# EAGLE library part 53261-0771 (library molex)
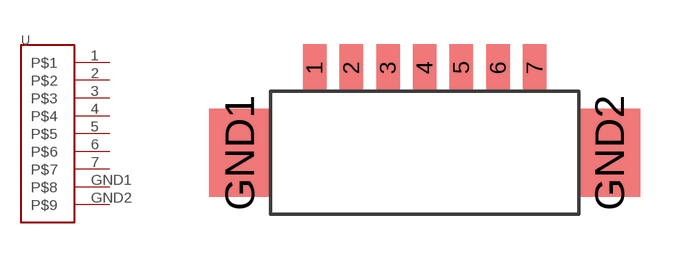
[diagram p94: symbol with the pads of 53261-0771; footprint 53261-0771]

Designator prefix -

## 53261-0771  [53261-0771]
1  P$1
2  P$2
3  P$3
4  P$4
5  P$5
6  P$6
7  P$7
GND1  P$8
GND2  P$9

## Footprint 53261-0771 (pad centres in mm)
smd 0.8 x 1.6: 1 -3.75,-0.8; 2 -2.5,-0.8; 3 -1.25,-0.8; 4 0,-0.8; 5 1.25,-0.8; 6 2.5,-0.8; 7 3.75,-0.8
smd 2.1 x 3: GND1 -6.3,-3.7; GND2 6.3,-3.7